# Altium schematic symbol library MyProject.SchLib: 44 symbols
Pins are listed as number, name and electrical type; pins without a type are passive.

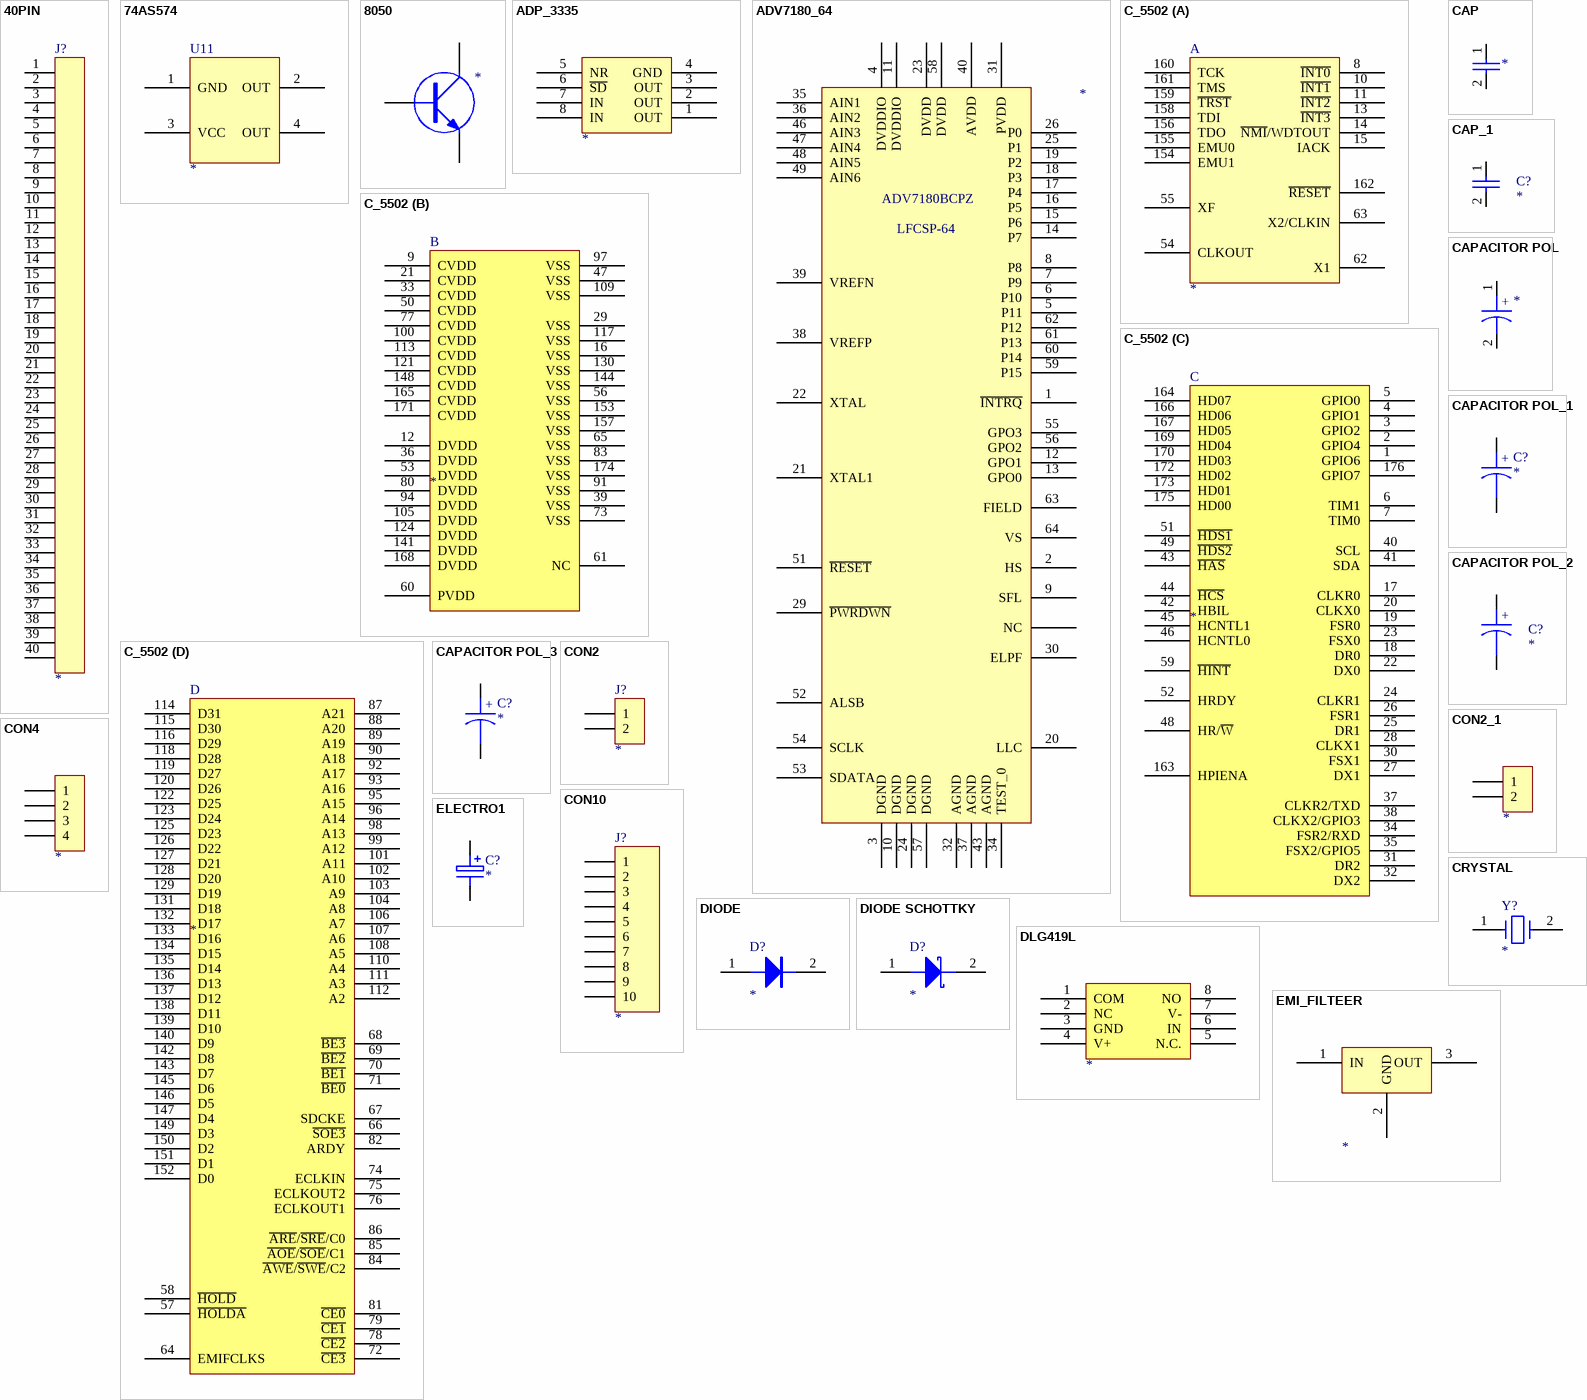
[diagram p0: symbols 40PIN to EMI_FILTEER]

## 40PIN
designator J?
footprint IDC40
footprint IDC40
pins: 1, 2, 3, 4, 5, 6, 7, 8, 9, 10, 11, 12, 13, 14, 15, 16, 17, 18, 19, 20, 21, 22, 23, 24, 25, 26, 27, 28, 29, 30, 31, 32, 33, 34, 35, 36, 37, 38, 39, 40

## 74AS574
designator U11
footprint SOT-223
footprint SOT223
footprint TO-263-3
pins: 1 GND, 2 OUT, 3 VCC, 4 OUT
2 alternate drawings of the same symbol

## 8050
designator ?
footprint 8050
pins: 1 B, 2 E, 3 C

## ADP_3335
designator ?
footprint ADP3335
pins: 1 OUT, 2 OUT, 3 OUT, 4 GND, 5 NR, 6 ~{SD}, 7 IN, 8 IN

## ADV7180_64
designator ?
footprint ADV7180_64
pins: 1 ~{INTRQ}, 2 HS, 3 DGND, 4 DVDDIO, 5 P11, 6 P10, 7 P9, 8 P8, 9 SFL, 10 DGND, 11 DVDDIO, 12 GPO1, 13 GPO0, 14 P7, 15 P6, 16 P5, 17 P4, 18 P3, 19 P2, 20 LLC, 21 XTAL1, 22 XTAL, 23 DVDD, 24 DGND, 25 P1, 26 P0, 29 ~{PWRDWN}, 30 ELPF, 31 PVDD, 32 AGND, 34 TEST_0, 35 AIN1, 36 AIN2, 37 AGND, 38 VREFP, 39 VREFN, 40 AVDD, 43 AGND, 46 AIN3, 47 AIN4, 48 AIN5, 49 AIN6, 51 ~{RESET}, 52 ALSB, 53 SDATA, 54 SCLK, 55 GPO3, 56 GPO2, 57 DGND, 58 DVDD, 59 P15, 60 P14, 61 P13, 62 P12, 63 FIELD, 64 VS, ?1 NC
text: ADV7180BCPZ; LFCSP-64

## C_5502
designator ?
part A pins: 8 ~{INT0}, 10 ~{INT1}, 11 ~{INT2}, 13 ~{INT3}, 14 ~{NMI}/WDTOUT, 15 IACK, 54 CLKOUT, 55 XF, 62 X1, 63 X2/CLKIN, 154 EMU1, 155 EMU0, 156 TDO, 158 TDI, 159 ~{TRST}, 160 TCK, 161 TMS, 162 ~{RESET}
part B pins: 9 CVDD, 12 DVDD, 16 VSS, 21 CVDD, 29 VSS, 33 CVDD, 36 DVDD, 39 VSS, 47 VSS, 50 CVDD, 53 DVDD, 56 VSS, 60 PVDD, 61 NC, 65 VSS, 73 VSS, 77 CVDD, 80 DVDD, 83 VSS, 91 VSS, 94 DVDD, 97 VSS, 100 CVDD, 105 DVDD, 109 VSS, 113 CVDD, 117 VSS, 121 CVDD, 124 DVDD, 130 VSS, 141 DVDD, 144 VSS, 148 CVDD, 153 VSS, 157 VSS, 165 CVDD, 168 DVDD, 171 CVDD, 174 VSS
part C pins: 1 GPIO6, 2 GPIO4, 3 GPIO2, 4 GPIO1, 5 GPIO0, 6 TIM1, 7 TIM0, 17 CLKR0, 18 DR0, 19 FSR0, 20 CLKX0, 22 DX0, 23 FSX0, 24 CLKR1, 25 DR1, 26 FSR1, 27 DX1, 28 CLKX1, 30 FSX1, 31 DR2, 32 DX2, 34 FSR2/RXD, 35 FSX2/GPIO5, 37 CLKR2/TXD, 38 CLKX2/GPIO3, 40 SCL, 41 SDA, 42 HBIL, 43 ~{HAS}, 44 ~{HCS}, 45 HCNTL1, 46 HCNTL0, 48 HR/~{W}, 49 ~{HDS2}, 51 ~{HDS1}, 52 HRDY, 59 ~{HINT}, 163 HPIENA, 164 HD07, 166 HD06, 167 HD05, 169 HD04, 170 HD03, 172 HD02, 173 HD01, 175 HD00, 176 GPIO7
part D pins: 57 ~{HOLDA}, 58 ~{HOLD}, 64 EMIFCLKS, 66 ~{SOE3}, 67 SDCKE, 68 ~{BE3}, 69 ~{BE2}, 70 ~{BE1}, 71 ~{BE0}, 72 ~{CE3}, 74 ECLKIN, 75 ECLKOUT2, 76 ECLKOUT1, 78 ~{CE2}, 79 ~{CE1}, 81 ~{CE0}, 82 ARDY, 84 ~{AWE}/~{SWE}/C2, 85 ~{AOE}/~{SOE}/C1, 86 ~{ARE}/~{SRE}/C0, 87 A21, 88 A20, 89 A19, 90 A18, 92 A17, 93 A16, 95 A15, 96 A14, 98 A13, 99 A12, 101 A11, 102 A10, 103 A9, 104 A8, 106 A7, 107 A6, 108 A5, 110 A4, 111 A3, 112 A2, 114 D31, 115 D30, 116 D29, 118 D28, 119 D27, 120 D26, 122 D25, 123 D24, 125 D23, 126 D22, 127 D21, 128 D20, 129 D19, 131 D18, 132 D17, 133 D16, 134 D15, 135 D14, 136 D13, 137 D12, 138 D11, 139 D10, 140 D9, 142 D8, 143 D7, 145 D6, 146 D5, 147 D4, 149 D3, 150 D2, 151 D1, 152 D0

## CAP
designator ?
footprint 0603
pins: 1, 2

## CAP_1
designator C?
Capacitor
footprint 1206
pins: 1, 2

## CAPACITOR POL
designator ?
pins: 1, 2
text: +

## CAPACITOR POL_1
designator C?
Capacitor
pins: 1, 2
text: +

## CAPACITOR POL_2
designator C?
Capacitor
pins: 1, 2
text: +

## CAPACITOR POL_3
designator C?
Capacitor
pins: 1, 2
text: +

## CON2
designator J?
Connector
pins: 1, 2

## CON2_1
designator ?
pins: 1, 2

## CON4
designator ?
pins: 1, 2, 3, 4

## CON10
designator J?
Connector
pins: 1, 2, 3, 4, 5, 6, 7, 8, 9, 10

## CRYSTAL
designator Y?
Crystal
pins: 1, 2

## DIODE
designator D?
Diode
pins: 1 A, 2 K

## DIODE SCHOTTKY
designator D?
Schottky Diode
pins: 1 A, 2 K

## DLG419L
designator ?
pins: 1 COM, 2 NC, 3 GND, 4 V+, 5 N.C., 6 IN, 7 V-, 8 NO

## ELECTRO1
designator C?
Electrolytic Capacitor
pins: 1, 2

## EMI_FILTEER
designator ?
pins: 1 IN, 2 GND, 3 OUT

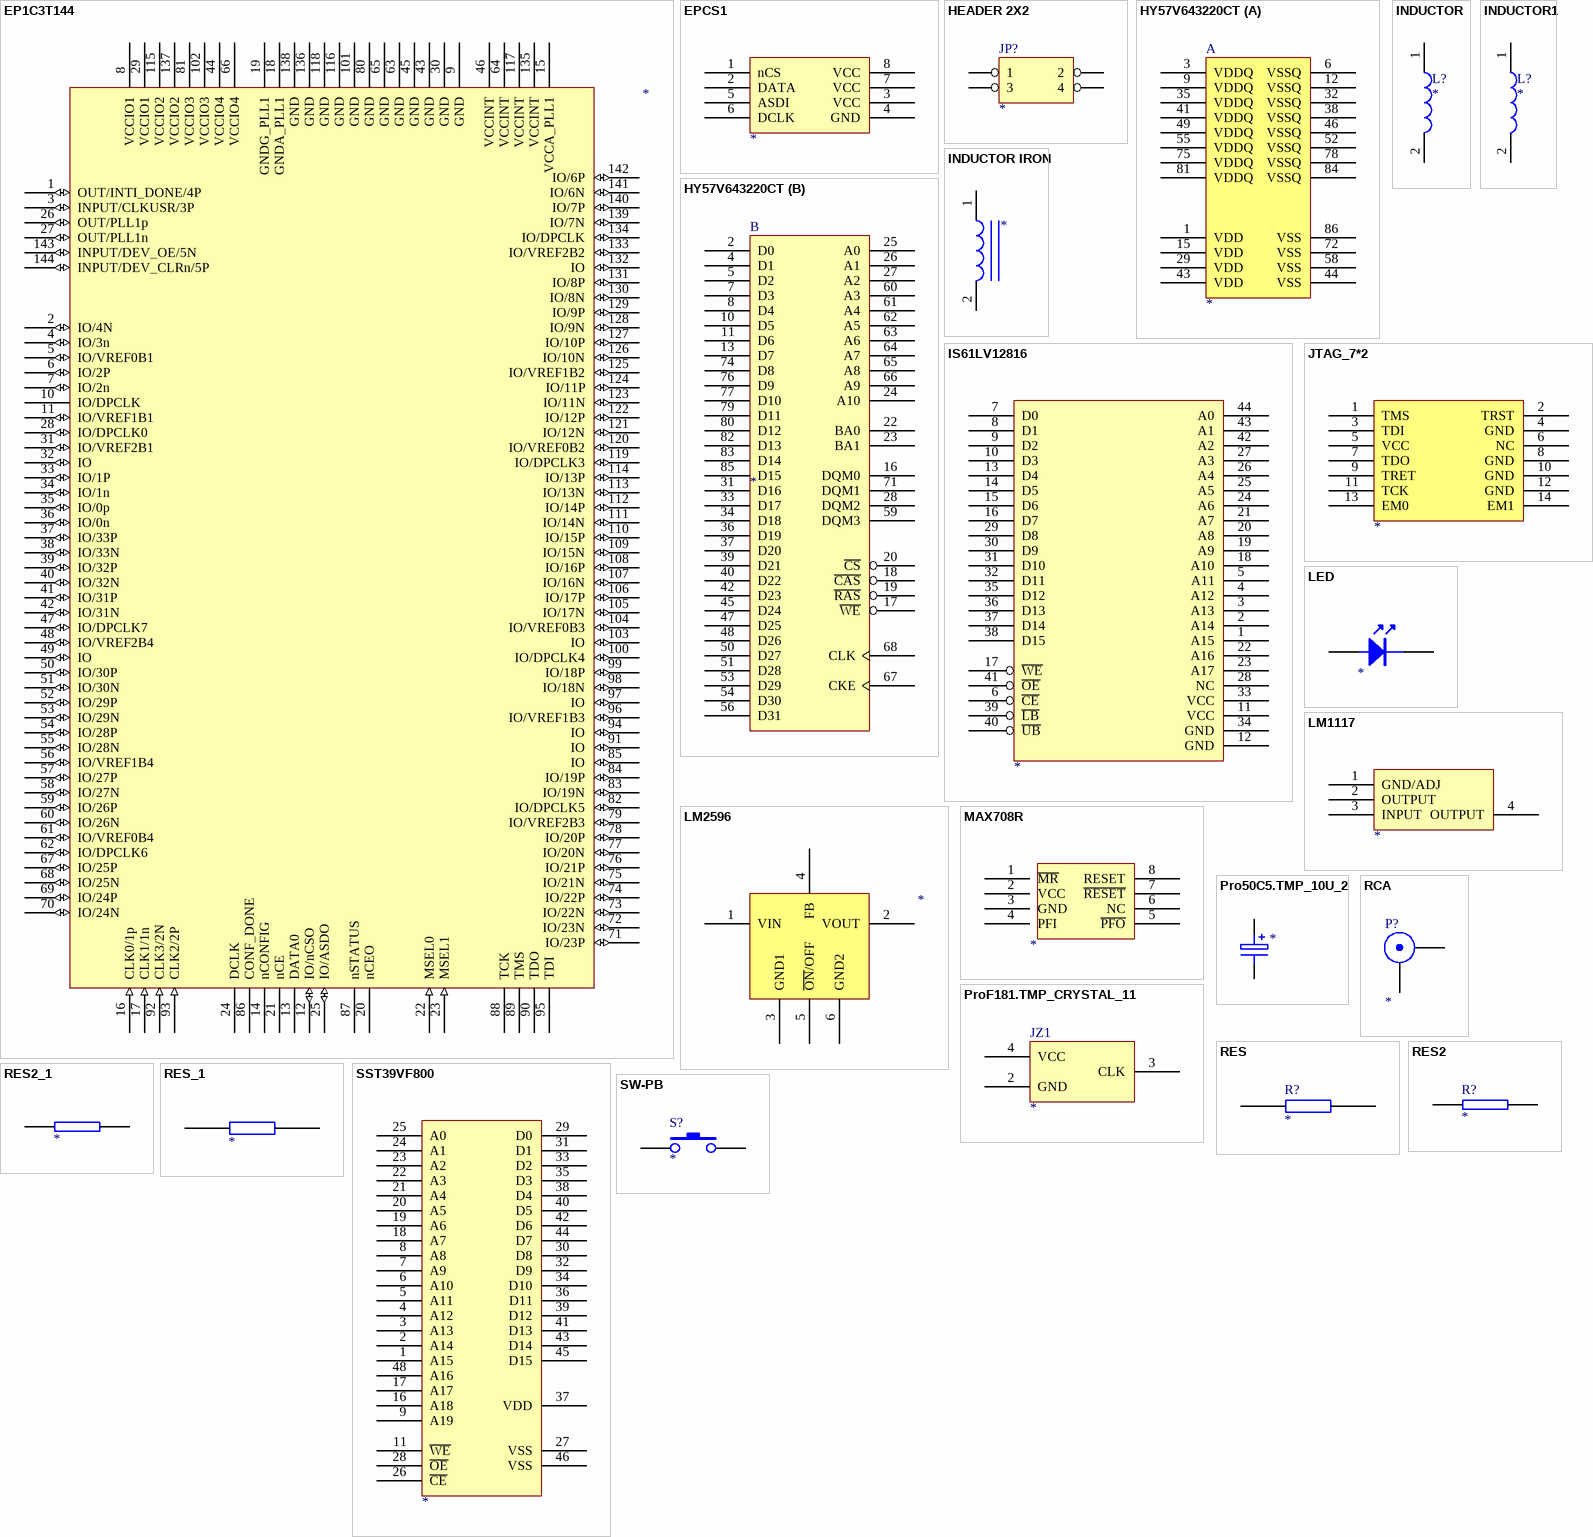
[diagram p1: symbols EP1C3T144 to SW-PB]

## EP1C3T144
designator ?
pins: 1 OUT/INTI_DONE/4P (io), 2 IO/4N (io), 3 INPUT/CLKUSR/3P (io), 4 IO/3n (io), 5 IO/VREF0B1 (io), 6 IO/2P (io), 7 IO/2n (io), 8 VCCIO1 (power), 9 GND, 10 IO/DPCLK, 11 IO/VREF1B1 (io), 12 IO/nCSO (io), 13 DATA0, 14 nCONFIG, 15 VCCA_PLL1 (power), 16 CLK0/1p (in), 17 CLK1/1n (in), 18 GNDA_PLL1, 19 GNDG_PLL1, 20 nCEO, 21 nCE, 22 MSEL0 (in), 23 MSEL1 (in), 24 DCLK, 25 IO/ASDO (io), 26 OUT/PLL1p (io), 27 OUT/PLL1n (io), 28 IO/DPCLK0 (io), 29 VCCIO1 (power), 30 GND, 31 IO/VREF2B1 (io), 32 IO (io), 33 IO/1P (io), 34 IO/1n (io), 35 IO/0p (io), 36 IO/0n (io), 37 IO/33P (io), 38 IO/33N (io), 39 IO/32P (io), 40 IO/32N (io), 41 IO/31P (io), 42 IO/31N (io), 43 GND, 44 VCCIO4 (power), 45 GND, 46 VCCINT (power), 47 IO/DPCLK7 (io), 48 IO/VREF2B4 (io), 49 IO (io), 50 IO/30P (io), 51 IO/30N (io), 52 IO/29P (io), 53 IO/29N (io), 54 IO/28P (io), 55 IO/28N (io), 56 IO/VREF1B4 (io), 57 IO/27P (io), 58 IO/27N (io), 59 IO/26P (io), 60 IO/26N (io), 61 IO/VREF0B4 (io), 62 IO/DPCLK6 (io), 63 GND, 64 VCCINT (power), 65 GND, 66 VCCIO4 (power), 67 IO/25P (io), 68 IO/25N (io), 69 IO/24P (io), 70 IO/24N (io), 71 IO/23P (io), 72 IO/23N (io), 73 IO/22N (io), 74 IO/22P (io), 75 IO/21N (io), 76 IO/21P (io), 77 IO/20N (io), 78 IO/20P (io), 79 IO/VREF2B3 (io), 80 GND, 81 VCCIO3 (power), 82 IO/DPCLK5 (io), 83 IO/19N (io), 84 IO/19P (io), 85 IO (io), 86 CONF_DONE, 87 nSTATUS, 88 TCK, 89 TMS, 90 TDO, 91 IO (io), 92 CLK3/2N (in), 93 CLK2/2P (in), 94 IO (io), 95 TDI, 96 IO/VREF1B3 (io), 97 IO (io), 98 IO/18N (io), 99 IO/18P (io), 100 IO/DPCLK4 (io), 101 GND, 102 VCCIO3 (power), 103 IO (io), 104 IO/VREF0B3 (io), 105 IO/17N (io), 106 IO/17P (io), 107 IO/16N (io), 108 IO/16P (io), 109 IO/15N (io), 110 IO/15P (io), 111 IO/14N (io), 112 IO/14P (io), 113 IO/13N (io), 114 IO/13P (io), 115 VCCIO2 (power), 116 GND, 117 VCCINT (power), 118 GND, 119 IO/DPCLK3 (io), 120 IO/VREF0B2 (io), 121 IO/12N (io), 122 IO/12P (io), 123 IO/11N (io), 124 IO/11P (io), 125 IO/VREF1B2 (io), 126 IO/10N (io), 127 IO/10P (io), 128 IO/9N (io), 129 IO/9P (io), 130 IO/8N (io), 131 IO/8P (io), 132 IO (io), 133 IO/VREF2B2 (io), 134 IO/DPCLK (io), 135 VCCINT (power), 136 GND, 137 VCCIO2 (power), 138 GND, 139 IO/7N (io), 140 IO/7P (io), 141 IO/6N (io), 142 IO/6P (io), 143 INPUT/DEV_OE/5N (io), 144 INPUT/DEV_CLRn/5P (io)

## EPCS1
designator ?
pins: 1 nCS, 2 DATA, 3 VCC, 4 GND, 5 ASDI, 6 DCLK, 7 VCC, 8 VCC

## HEADER 2X2
designator JP?
pins: 1, 2, 3 (power), 4

## HY57V643220CT
designator ?
part A pins: 1 VDD, 3 VDDQ, 6 VSSQ, 9 VDDQ, 12 VSSQ, 15 VDD, 29 VDD, 32 VSSQ, 35 VDDQ, 38 VSSQ, 41 VDDQ, 43 VDD, 44 VSS, 46 VSSQ, 49 VDDQ, 52 VSSQ, 55 VDDQ, 58 VSS, 72 VSS, 75 VDDQ, 78 VSSQ, 81 VDDQ, 84 VSSQ, 86 VSS
part B pins: 2 D0, 4 D1, 5 D2, 7 D3, 8 D4, 10 D5, 11 D6, 13 D7, 16 DQM0, 17 ~{WE}, 18 ~{CAS}, 19 ~{RAS}, 20 ~{CS}, 22 BA0, 23 BA1, 24 A10, 25 A0, 26 A1, 27 A2, 28 DQM2, 31 D16, 33 D17, 34 D18, 36 D19, 37 D20, 39 D21, 40 D22, 42 D23, 45 D24, 47 D25, 48 D26, 50 D27, 51 D28, 53 D29, 54 D30, 56 D31, 59 DQM3, 60 A3, 61 A4, 62 A5, 63 A6, 64 A7, 65 A8, 66 A9, 67 CKE, 68 CLK, 71 DQM1, 74 D8, 76 D9, 77 D10, 79 D11, 80 D12, 82 D13, 83 D14, 85 D15

## INDUCTOR
designator L?
pins: 1, 2

## INDUCTOR1
designator L?
pins: 1, 2

## INDUCTOR IRON
designator ?
pins: 1, 2

## IS61LV12816
designator ?
pins: 1 A15, 2 A14, 3 A13, 4 A12, 5 A11, 6 ~{CE}, 7 D0, 8 D1, 9 D2, 10 D3, 11 VCC, 12 GND, 13 D4, 14 D5, 15 D6, 16 D7, 17 ~{WE}, 18 A10, 19 A9, 20 A8, 21 A7, 22 A16, 23 A17, 24 A6, 25 A5, 26 A4, 27 A3, 28 NC, 29 D8, 30 D9, 31 D10, 32 D11, 33 VCC, 34 GND, 35 D12, 36 D13, 37 D14, 38 D15, 39 ~{LB}, 40 ~{UB}, 41 ~{OE}, 42 A2, 43 A1, 44 A0

## JTAG_7*2
designator ?
pins: 1 TMS, 2 TRST, 3 TDI, 4 GND, 5 VCC, 6 NC, 7 TDO, 8 GND, 9 TRET, 10 GND, 11 TCK, 12 GND, 13 EM0, 14 EM1

## LED
designator ?
pins: 1, 2

## LM1117
designator ?
pins: 1 GND/ADJ, 2 OUTPUT, 3 INPUT, 4 OUTPUT

## LM2596
designator ?
pins: 1 VIN, 2 VOUT, 3 GND1, 4 FB, 5 ~{ON}/OFF, 6 GND2

## MAX708R
designator ?
footprint DIP8
pins: 1 ~{MR}, 2 VCC, 3 GND, 4 PFI, 5 ~{PFO}, 6 NC, 7 ~{RESET}, 8 RESET

## Pro50C5.TMP_10U_2
designator ?
footprint E
pins: 1, 2

## ProF181.TMP_CRYSTAL_11
designator JZ1
footprint CRYSTAL
footprint CRYSTAL2
pins: 2 GND, 3 CLK, 4 VCC
2 alternate drawings of the same symbol

## RCA
designator P?
RCA Connector
pins: 1 X, 2 Y

## RES
designator R?
footprint 0603
pins: 1, 2

## RES2
designator R?
pins: 1, 2

## RES2_1
designator ?
pins: 1, 2

## RES_1
designator ?
pins: 1, 2

## SST39VF800
designator ?
pins: 1 A15, 2 A14, 3 A13, 4 A12, 5 A11, 6 A10, 7 A9, 8 A8, 9 A19, 11 ~{WE}, 16 A18, 17 A17, 18 A7, 19 A6, 20 A5, 21 A4, 22 A3, 23 A2, 24 A1, 25 A0, 26 ~{CE}, 27 VSS, 28 ~{OE}, 29 D0, 30 D8, 31 D1, 32 D9, 33 D2, 34 D10, 35 D3, 36 D11, 37 VDD, 38 D4, 39 D12, 40 D5, 41 D13, 42 D6, 43 D14, 44 D7, 45 D15, 46 VSS, 48 A16

## SW-PB
designator S?
pins: 1, 2